# Altium integrated library IR2101S.IntLib: 1 symbol
Pins are listed as number, name and electrical type; pins without a type are passive.

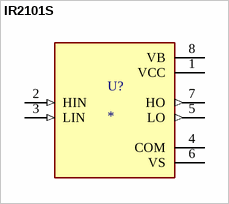
[diagram p0: symbol IR2101S]

## IR2101S
designator U?
Half-Bridge Gate Driver IC Non-Inverting 8-SOIC; MF: Infineon Technologies; MP: IR2101S; SnapEDA_Link: https://www.snapeda.com/parts/IR2101S/Infineon/view-part/?ref=snap; Package: SOIC-8 Infineon; Value: *; Check_prices: https://www.snapeda.com/parts/IR2101S/Infineon/view-part/?ref=eda
footprint SOIC127P600X175-8N
pins: 1 VCC (power), 2 HIN (in), 3 LIN (in), 4 COM (power), 5 LO (out), 6 VS (power), 7 HO (out), 8 VB (power)